# EAGLE library part TLC59282 (library parts)
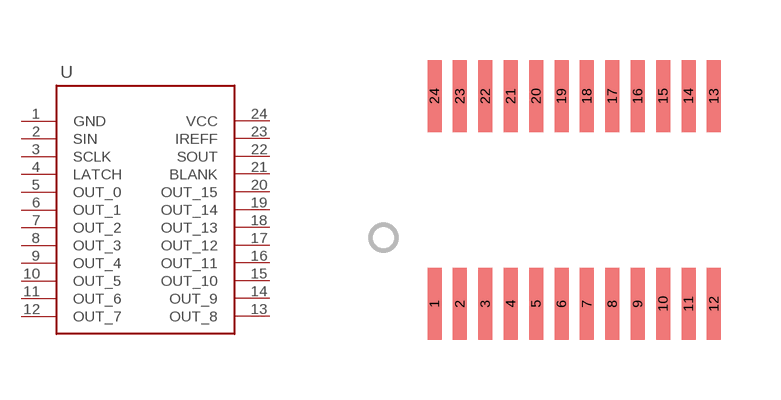
[diagram p3: symbol with the pads of 24SSOP; footprint 24SSOP]

Designator prefix U

## TLC59282  [24SSOP]
1  GND
2  SIN
3  SCLK
4  LATCH
5  OUT_0
6  OUT_1
7  OUT_2
8  OUT_3
9  OUT_4
10  OUT_5
11  OUT_6
12  OUT_7
13  OUT_8
14  OUT_9
15  OUT_10
16  OUT_11
17  OUT_12
18  OUT_13
19  OUT_14
20  OUT_15
21  BLANK
22  SOUT
23  IREFF
24  VCC

## Footprint 24SSOP (pad centres in mm)
smd 0.35 x 1.8: 1 -3.493,-2.6; 2 -2.857,-2.6; 3 -2.223,-2.6; 4 -1.587,-2.6; 5 -0.953,-2.6; 6 -0.318,-2.6; 7 0.318,-2.6; 8 0.953,-2.6; 9 1.587,-2.6; 10 2.223,-2.6; 11 2.857,-2.6; 12 3.493,-2.6; 13 3.493,2.6; 14 2.857,2.6; 15 2.223,2.6; 16 1.587,2.6; 17 0.953,2.6; 18 0.318,2.6; 19 -0.318,2.6; 20 -0.953,2.6; 21 -1.587,2.6; 22 -2.223,2.6; 23 -2.857,2.6; 24 -3.493,2.6